# Altium footprint library RoboRioConnector.PCBLIB: 2 footprints
Each footprint in its own frame and in the unit in brackets; x right, y up, seen from the top. Pads: shape width x height; smd on the part's side, far side on the other; paste and mask are expansions set on the pad; w line width, h text height; cw(c..) or ccw(c..) is an arc to the next point about the centre after c.
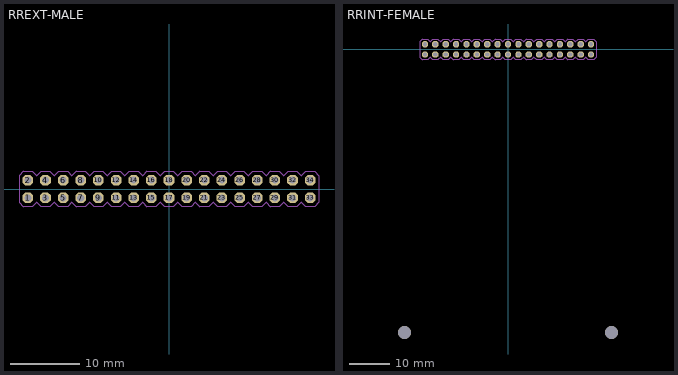
[diagram p0: the footprints below, top view; thin cyan lines are the x and y axes]

## RREXT-MALE [mil]
pads (34):
  oct 60x60 hole 40: 1(-800,-50) 2(-800,50) 3(-700,-50) 4(-700,50) 5(-600,-50) 6(-600,50) 7(-500,-50) 8(-500,50) 9(-400,-50) 10(-400,50) 11(-300,-50) 12(-300,50) 13(-200,-50) 14(-200,50) 15(-100,-50) 16(-100,50) 17(0,-50) 18(0,50) 19(100,-50) 20(100,50) 21(200,-50) 22(200,50) 23(300,-50) 24(300,50) 25(400,-50) 26(400,50) 27(500,-50) 28(500,50) 29(600,-50) 30(600,50) 31(700,-50) 32(700,50) 33(800,-50) 34(800,50)
Assembly Top:
  region: -710,-60 -710,-40 -690,-40 -690,-60
  region: -810,-60 -810,-40 -790,-40 -790,-60
  region: -610,-60 -610,-40 -590,-40 -590,-60
  region: -410,-60 -410,-40 -390,-40 -390,-60
  region: -510,-60 -510,-40 -490,-40 -490,-60
  region: -310,-60 -310,-40 -290,-40 -290,-60
  region: -810,40 -810,60 -790,60 -790,40
  region: -710,40 -710,60 -690,60 -690,40
  region: -610,40 -610,60 -590,60 -590,40
  region: -510,40 -510,60 -490,60 -490,40
  region: -410,40 -410,60 -390,60 -390,40
  region: -310,40 -310,60 -290,60 -290,40
  region: -210,40 -210,60 -190,60 -190,40
  region: -210,-60 -210,-40 -190,-40 -190,-60
  region: -10,-60 -10,-40 10,-40 10,-60
  region: -110,-60 -110,-40 -90,-40 -90,-60
  region: 90,-60 90,-40 110,-40 110,-60
  region: 290,-60 290,-40 310,-40 310,-60
  region: 190,-60 190,-40 210,-40 210,-60
  region: 390,-60 390,-40 410,-40 410,-60
  region: -110,40 -110,60 -90,60 -90,40
  region: -10,40 -10,60 10,60 10,40
  region: 90,40 90,60 110,60 110,40
  region: 190,40 190,60 210,60 210,40
  region: 290,40 290,60 310,60 310,40
  region: 390,40 390,60 410,60 410,40
  region: 490,40 490,60 510,60 510,40
  region: 490,-60 490,-40 510,-40 510,-60
  region: 690,-60 690,-40 710,-40 710,-60
  region: 590,-60 590,-40 610,-40 610,-60
  region: 790,-60 790,-40 810,-40 810,-60
  region: 590,40 590,60 610,60 610,40
  region: 690,40 690,60 710,60 710,40
  region: 790,40 790,60 810,60 810,40
Top Assembly:
  lines w6: -850,-75 -850,75 -825,100 -775,100 -750,75 -725,100 -675,100 -650,75 -625,100 -575,100 -550,75 -525,100 -475,100 -450,75 -425,100 -375,100 -350,75 -325,100 -275,100 -250,75 -225,100 -175,100 -150,75 -125,100 -75,100 -50,75 -25,100 25,100 50,75 75,100 125,100 150,75 175,100 225,100 250,75 275,100 325,100 350,75 375,100 425,100 450,75 475,100 525,100 550,75 575,100 625,100 650,75 675,100 725,100 750,75 775,100 825,100 850,75 850,-75 825,-100 775,-100 750,-75 725,-100 675,-100 650,-75 625,-100 575,-100 550,-75 525,-100 475,-100 450,-75 425,-100 375,-100 350,-75 325,-100 275,-100 250,-75 225,-100 175,-100 150,-75 125,-100 75,-100 50,-75 25,-100 -25,-100 -50,-75 -75,-100 -125,-100 -150,-75 -175,-100 -225,-100 -250,-75 -275,-100 -325,-100 -350,-75 -375,-100 -425,-100 -450,-75 -475,-100 -525,-100 -550,-75 -575,-100 -625,-100 -650,-75 -675,-100 -725,-100 -750,-75 -775,-100 -825,-100 -850,-75

## RRINT-FEMALE [mil]
pads (36):
  oct 60x60 hole 40: 1(-800,-50) 2(-800,50) 3(-700,-50) 4(-700,50) 5(-600,-50) 6(-600,50) 7(-500,-50) 8(-500,50) 9(-400,-50) 10(-400,50) 11(-300,-50) 12(-300,50) 13(-200,-50) 14(-200,50) 15(-100,-50) 16(-100,50) 17(0,-50) 18(0,50) 19(100,-50) 20(100,50) 21(200,-50) 22(200,50) 23(300,-50) 24(300,50) 25(400,-50) 26(400,50) 27(500,-50) 28(500,50) 29(600,-50) 30(600,50) 31(700,-50) 32(700,50) 33(800,-50) 34(800,50)
  round 125 hole 125 unplated: MH1(-997,-2727) MH2(997,-2727)
Assembly Top:
  region: -710,-60 -710,-40 -690,-40 -690,-60
  region: -810,-60 -810,-40 -790,-40 -790,-60
  region: -610,-60 -610,-40 -590,-40 -590,-60
  region: -410,-60 -410,-40 -390,-40 -390,-60
  region: -510,-60 -510,-40 -490,-40 -490,-60
  region: -310,-60 -310,-40 -290,-40 -290,-60
  region: -810,40 -810,60 -790,60 -790,40
  region: -710,40 -710,60 -690,60 -690,40
  region: -610,40 -610,60 -590,60 -590,40
  region: -510,40 -510,60 -490,60 -490,40
  region: -410,40 -410,60 -390,60 -390,40
  region: -310,40 -310,60 -290,60 -290,40
  region: -210,40 -210,60 -190,60 -190,40
  region: -210,-60 -210,-40 -190,-40 -190,-60
  region: -10,-60 -10,-40 10,-40 10,-60
  region: -110,-60 -110,-40 -90,-40 -90,-60
  region: 90,-60 90,-40 110,-40 110,-60
  region: 290,-60 290,-40 310,-40 310,-60
  region: 190,-60 190,-40 210,-40 210,-60
  region: 390,-60 390,-40 410,-40 410,-60
  region: -110,40 -110,60 -90,60 -90,40
  region: -10,40 -10,60 10,60 10,40
  region: 90,40 90,60 110,60 110,40
  region: 190,40 190,60 210,60 210,40
  region: 290,40 290,60 310,60 310,40
  region: 390,40 390,60 410,60 410,40
  region: 490,40 490,60 510,60 510,40
  region: 490,-60 490,-40 510,-40 510,-60
  region: 690,-60 690,-40 710,-40 710,-60
  region: 590,-60 590,-40 610,-40 610,-60
  region: 790,-60 790,-40 810,-40 810,-60
  region: 590,40 590,60 610,60 610,40
  region: 690,40 690,60 710,60 710,40
  region: 790,40 790,60 810,60 810,40
Top Assembly:
  lines w6: -850,-75 -850,75 -825,100 -775,100 -750,75 -725,100 -675,100 -650,75 -625,100 -575,100 -550,75 -525,100 -475,100 -450,75 -425,100 -375,100 -350,75 -325,100 -275,100 -250,75 -225,100 -175,100 -150,75 -125,100 -75,100 -50,75 -25,100 25,100 50,75 75,100 125,100 150,75 175,100 225,100 250,75 275,100 325,100 350,75 375,100 425,100 450,75 475,100 525,100 550,75 575,100 625,100 650,75 675,100 725,100 750,75 775,100 825,100 850,75 850,-75 825,-100 775,-100 750,-75 725,-100 675,-100 650,-75 625,-100 575,-100 550,-75 525,-100 475,-100 450,-75 425,-100 375,-100 350,-75 325,-100 275,-100 250,-75 225,-100 175,-100 150,-75 125,-100 75,-100 50,-75 25,-100 -25,-100 -50,-75 -75,-100 -125,-100 -150,-75 -175,-100 -225,-100 -250,-75 -275,-100 -325,-100 -350,-75 -375,-100 -425,-100 -450,-75 -475,-100 -525,-100 -550,-75 -575,-100 -625,-100 -650,-75 -675,-100 -725,-100 -750,-75 -775,-100 -825,-100 -850,-75